# EAGLE library part 2X7-JTAG-MSP430 (library howell)
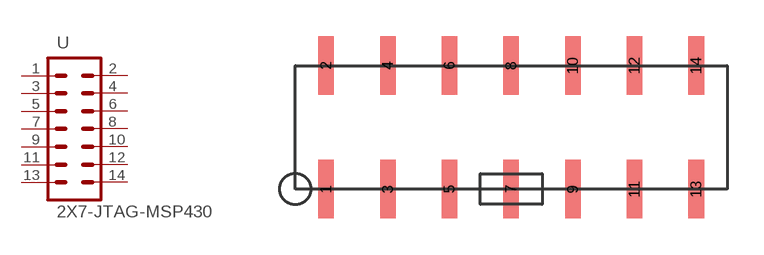
[diagram p1: symbol with the pads of 2X7-JTAG; footprint 2X7-JTAG]

Designator prefix -

## 2X7-JTAG-MSP430  [2X7-JTAG]
1  1  pas
2  2  pas
3  3  pas
4  4  pas
5  5  pas
6  6  pas
7  7  pas
8  8  pas
9  9  pas
10  10  pas
11  11  pas
12  12  pas
13  13  pas
14  14  pas

## Footprint 2X7-JTAG (pad centres in mm)
smd 0.64 x 2.41: 1 -6.35,-2.54; 2 -6.35,2.54; 3 -3.81,-2.54; 4 -3.81,2.54; 5 -1.27,-2.54; 6 -1.27,2.54; 7 1.27,-2.54; 8 1.27,2.54; 9 3.81,-2.54; 10 3.81,2.54; 11 6.35,-2.54; 12 6.35,2.54; 13 8.89,-2.54; 14 8.89,2.54